# Altium schematic symbol library ERJU1TF3900U.SchLib: 1 symbol
Pins are listed as number, name and electrical type; pins without a type are passive.

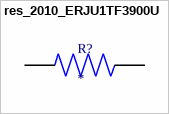
[diagram p0: symbol res_2010_ERJU1TF3900U]

## res_2010_ERJU1TF3900U
designator R?
RES 2010; MP: ERJU1TF3900U; Price: None; Value: *; Availability: Unavailable; Package: None
footprint RES_ERJU1TF3900U
pins: 1, 2